# Altium schematic symbol library LD1117AS33TR.SchLib: 1 symbol
Pins are listed as number, name and electrical type; pins without a type are passive.

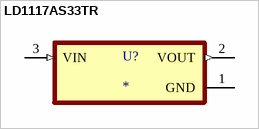
[diagram p0: symbol LD1117AS33TR]

## LD1117AS33TR
designator U?
MF: {'manufacturer': u'STMicroelectronics'}; MP: LD1117AS33TR; Package: None; Price: None; Value: *; Availability: Unavailable
footprint SOT230P700X180-4N
pins: 1 GND (power), 2 VOUT (out), 3 VIN (in)